# Altium schematic symbol library rectifier_Schlib1.SchLib: 4 symbols
Pins are listed as number, name and electrical type; pins without a type are passive.

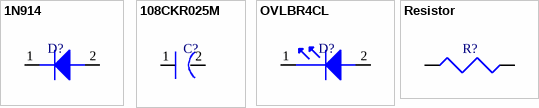
[diagram p0: symbols 1N914 to Resistor]

## 1N914
designator D?, comment Diode  (value not drawn)
Manufacturer: onsemi; Part No: 1N914
footprint Diode 1N914
pins: 1, 2

## 108CKR025M
designator C?, comment Capacitor 1000uF 25V  (value not drawn)
Manufacturer: CKR/CKS; Part No: 108CKR025M; Capacitance: 1000uF; Voltage: 25V
footprint Capacitor 1000uF 25V
pins: 1, 2

## OVLBR4CL
designator D?, comment 3mm red LED  (value not drawn)
Manufacturer: TT electronics; Part No: OVLBR4CL; Colour: Red
footprint LED 3mm red
pins: 1, 2

## Resistor
designator R?, comment 10K, 0.25W  (value not drawn)
Manufacturer: Yageo Corporation
footprint Resistor 10K, 0.25W
pins: 1, 2